# Altium schematic symbol library SCH_LIB.SchLib: 62 symbols
Pins are listed as number, name and electrical type; pins without a type are passive.

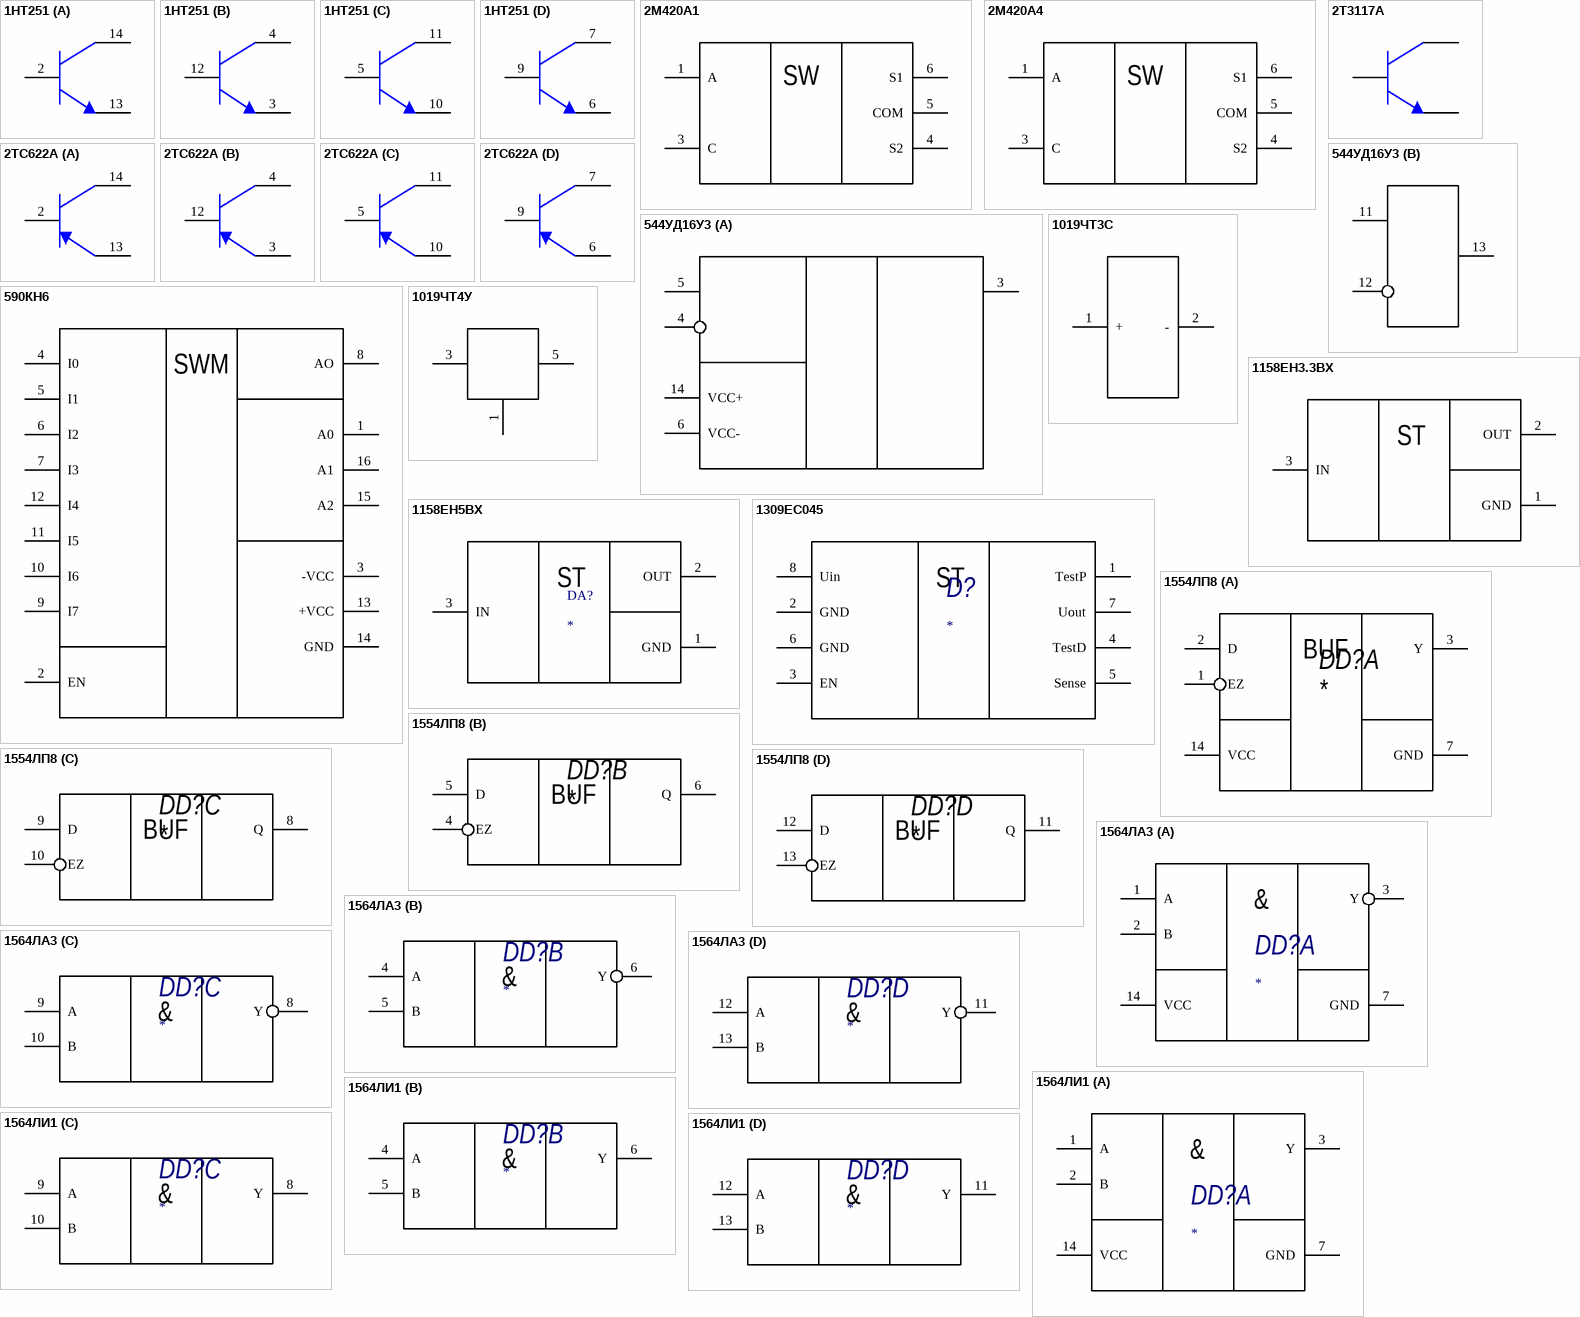
[diagram p0: symbols 1НТ251 to 1564ЛИ1]

## 1НТ251
designator DA?  (value not drawn)
part A pins: 2 B, 13 E, 14 C
part B pins: 3 E, 4 C, 12 B
part C pins: 5 B, 10 E, 11 C
part D pins: 6 E, 7 C, 9 B

## 2М420А1
designator D?  (value not drawn)
pins: 1 A, 3 C, 4 S2, 5 COM, 6 S1
text: SW

## 2М420А4
designator D?  (value not drawn)
pins: 1 A, 3 C, 4 S2, 5 COM, 6 S1
text: SW

## 2Т3117А
designator VT?  (value not drawn)
pins: 1 B, 2 E, 3 C

## 2ТС622А
designator DA?  (value not drawn)
part A pins: 2 B, 13 E, 14 C
part B pins: 3 E, 4 C, 12 B
part C pins: 5 B, 10 E, 11 C
part D pins: 6 E, 7 C, 9 B

## 544УД16У3
designator DA?  (value not drawn)
part A pins: 3, 4, 5, 6 VCC-, 14 VCC+
part B pins: 11, 12, 13

## 590КН6
designator DD?  (value not drawn)
pins: 1 A0, 2 EN, 3 -VCC, 4 I0, 5 I1, 6 I2, 7 I3, 8 AO, 9 I7, 10 I6, 11 I5, 12 I4, 13 +VCC, 14 GND, 15 A2, 16 A1
text: SWM

## 1019ЧТ3С
designator DA?  (value not drawn)
pins: 1 +, 2 -

## 1019ЧТ4У
designator DD?  (value not drawn)
pins: 1 6, 3 34, 5 33

## 1158ЕН3.3ВХ
designator DA?  (value not drawn)
pins: 1 GND, 2 OUT, 3 IN
text: ST

## 1158ЕН5ВХ
designator DA?
pins: 1 GND, 2 OUT, 3 IN
text: ST

## 1309ЕС045
designator D?
pins: 1 TestP, 2 GND, 3 EN, 4 TestD, 5 Sense, 6 GND, 7 Uout, 8 Uin
text: ST

## 1554ЛП8
designator DD?
part A pins: 1 EZ, 2 D, 3 Y, 7 GND, 14 VCC
part B pins: 4 EZ, 5 D, 6 Q
part C pins: 8 Q, 9 D, 10 EZ
part D pins: 11 Q, 12 D, 13 EZ
part A text: BUF
part B text: BUF
part C text: BUF
part D text: BUF

## 1564ЛА3
designator DD?
part A pins: 1 A, 2 B, 3 Y, 7 GND, 14 VCC
part B pins: 4 A, 5 B, 6 Y
part C pins: 8 Y, 9 A, 10 B
part D pins: 11 Y, 12 A, 13 B
part A text: &
part B text: &
part C text: &
part D text: &

## 1564ЛИ1
designator DD?
part A pins: 1 A, 2 B, 3 Y, 7 GND, 14 VCC
part B pins: 4 A, 5 B, 6 Y
part C pins: 8 Y, 9 A, 10 B
part D pins: 11 Y, 12 A, 13 B
part A text: &
part B text: &
part C text: &
part D text: &

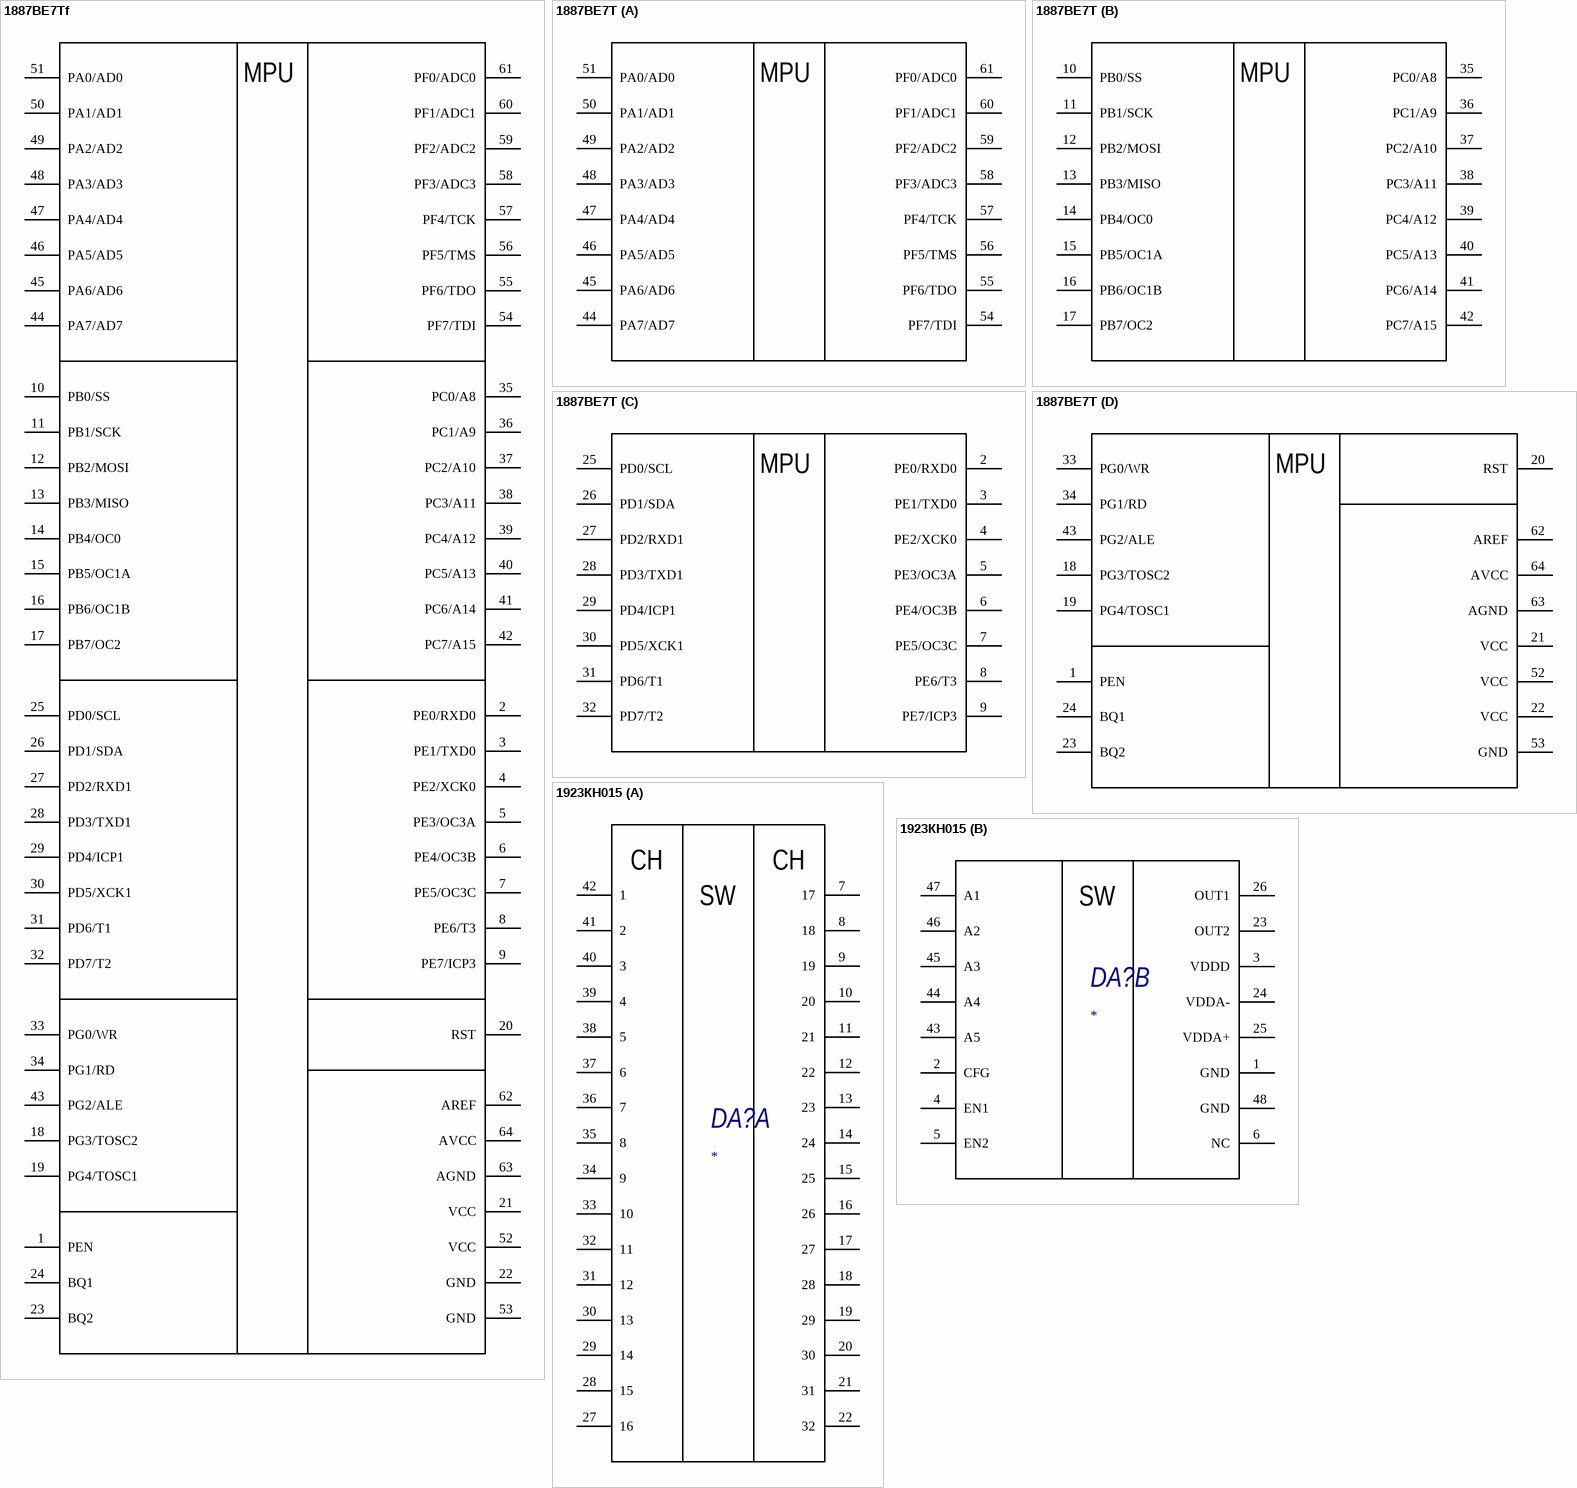
[diagram p1: symbols 1887BE7Тf to 1923КН015]

## 1887BE7Тf
designator DD?  (value not drawn)
pins: 1 PEN, 2 PE0/RXD0, 3 PE1/TXD0, 4 PE2/XCK0, 5 PE3/OC3A, 6 PE4/OC3B, 7 PE5/OC3C, 8 PE6/T3, 9 PE7/ICP3, 10 PB0/SS, 11 PB1/SCK, 12 PB2/MOSI, 13 PB3/MISO, 14 PB4/OC0, 15 PB5/OC1A, 16 PB6/OC1B, 17 PB7/OC2, 18 PG3/TOSC2, 19 PG4/TOSC1, 20 RST, 21 VCC, 22 GND, 23 BQ2, 24 BQ1, 25 PD0/SCL, 26 PD1/SDA, 27 PD2/RXD1, 28 PD3/TXD1, 29 PD4/ICP1, 30 PD5/XCK1, 31 PD6/T1, 32 PD7/T2, 33 PG0/WR, 34 PG1/RD, 35 PC0/A8, 36 PC1/A9, 37 PC2/A10, 38 PC3/A11, 39 PC4/A12, 40 PC5/A13, 41 PC6/A14, 42 PC7/A15, 43 PG2/ALE, 44 PA7/AD7, 45 PA6/AD6, 46 PA5/AD5, 47 PA4/AD4, 48 PA3/AD3, 49 PA2/AD2, 50 PA1/AD1, 51 PA0/AD0, 52 VCC, 53 GND, 54 PF7/TDI, 55 PF6/TDO, 56 PF5/TMS, 57 PF4/TCK, 58 PF3/ADC3, 59 PF2/ADC2, 60 PF1/ADC1, 61 PF0/ADC0, 62 AREF, 63 AGND, 64 AVCC
text: MPU

## 1887ВЕ7Т
designator DD?  (value not drawn)
part A pins: 44 PA7/AD7, 45 PA6/AD6, 46 PA5/AD5, 47 PA4/AD4, 48 PA3/AD3, 49 PA2/AD2, 50 PA1/AD1, 51 PA0/AD0, 54 PF7/TDI, 55 PF6/TDO, 56 PF5/TMS, 57 PF4/TCK, 58 PF3/ADC3, 59 PF2/ADC2, 60 PF1/ADC1, 61 PF0/ADC0
part B pins: 10 PB0/SS, 11 PB1/SCK, 12 PB2/MOSI, 13 PB3/MISO, 14 PB4/OC0, 15 PB5/OC1A, 16 PB6/OC1B, 17 PB7/OC2, 35 PC0/A8, 36 PC1/A9, 37 PC2/A10, 38 PC3/A11, 39 PC4/A12, 40 PC5/A13, 41 PC6/A14, 42 PC7/A15
part C pins: 2 PE0/RXD0, 3 PE1/TXD0, 4 PE2/XCK0, 5 PE3/OC3A, 6 PE4/OC3B, 7 PE5/OC3C, 8 PE6/T3, 9 PE7/ICP3, 25 PD0/SCL, 26 PD1/SDA, 27 PD2/RXD1, 28 PD3/TXD1, 29 PD4/ICP1, 30 PD5/XCK1, 31 PD6/T1, 32 PD7/T2
part D pins: 1 PEN, 18 PG3/TOSC2, 19 PG4/TOSC1, 20 RST, 21 VCC, 22 VCC, 23 BQ2, 24 BQ1, 33 PG0/WR, 34 PG1/RD, 43 PG2/ALE, 52 VCC, 53 GND, 62 AREF, 63 AGND, 64 AVCC
part A text: MPU
part B text: MPU
part C text: MPU
part D text: MPU

## 1923КН015
designator DA?
part A pins: 7 17, 8 18, 9 19, 10 20, 11 21, 12 22, 13 23, 14 24, 15 25, 16 26, 17 27, 18 28, 19 29, 20 30, 21 31, 22 32, 27 16, 28 15, 29 14, 30 13, 31 12, 32 11, 33 10, 34 9, 35 8, 36 7, 37 6, 38 5, 39 4, 40 3, 41 2, 42 1
part B pins: 1 GND, 2 CFG, 3 VDDD, 4 EN1, 5 EN2, 6 NC, 23 OUT2, 24 VDDA-, 25 VDDA+, 26 OUT1, 43 A5, 44 A4, 45 A3, 46 A2, 47 A1, 48 GND
part A text: CH; SW
part B text: SW

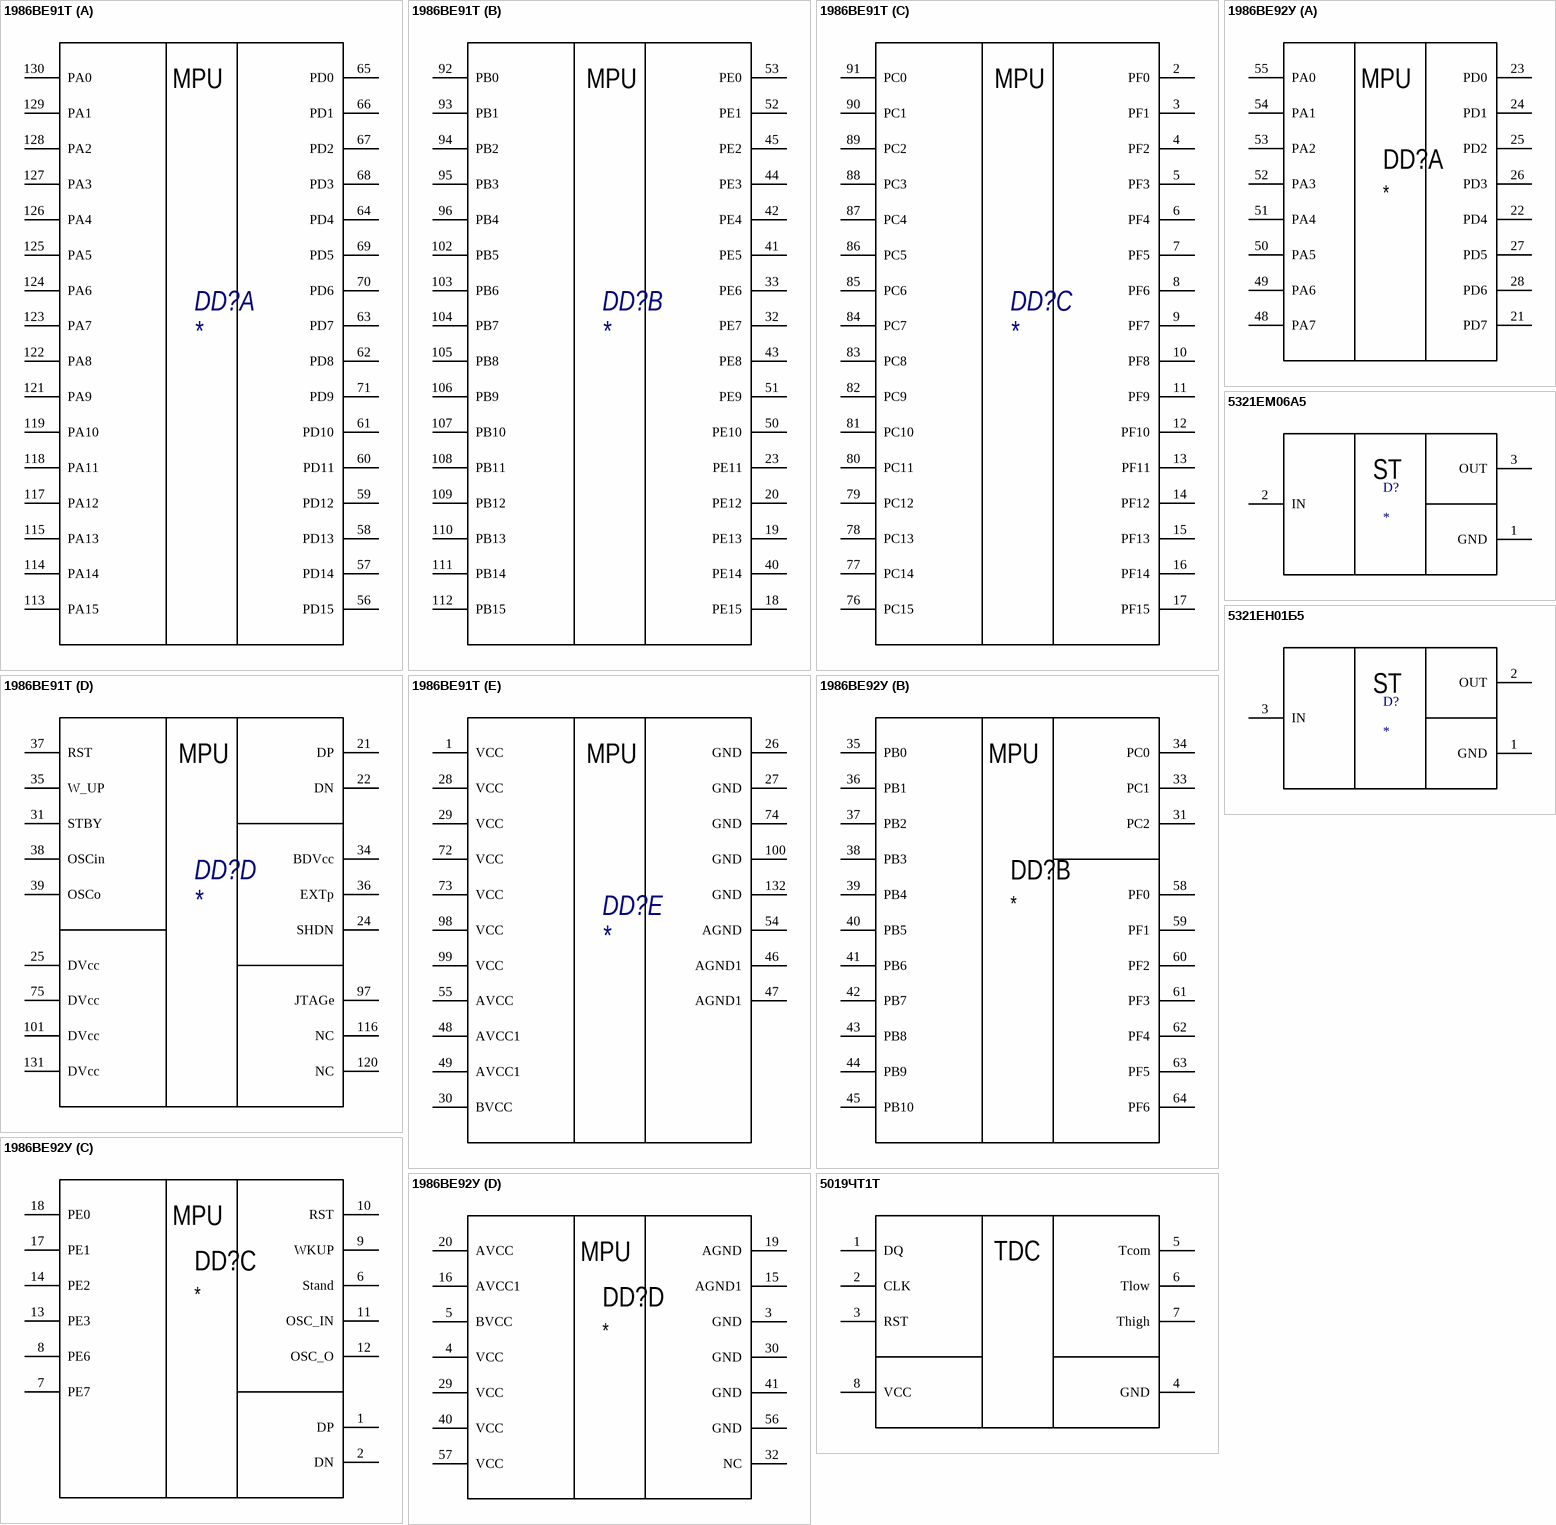
[diagram p2: symbols 1986ВЕ91Т to 5321ЕН01Б5]

## 1986ВЕ91Т
designator DD?
part A pins: 56 PD15, 57 PD14, 58 PD13, 59 PD12, 60 PD11, 61 PD10, 62 PD8, 63 PD7, 64 PD4, 65 PD0, 66 PD1, 67 PD2, 68 PD3, 69 PD5, 70 PD6, 71 PD9, 113 PA15, 114 PA14, 115 PA13, 117 PA12, 118 PA11, 119 PA10, 121 PA9, 122 PA8, 123 PA7, 124 PA6, 125 PA5, 126 PA4, 127 PA3, 128 PA2, 129 PA1, 130 PA0
part B pins: 18 PE15, 19 PE13, 20 PE12, 23 PE11, 32 PE7, 33 PE6, 40 PE14, 41 PE5, 42 PE4, 43 PE8, 44 PE3, 45 PE2, 50 PE10, 51 PE9, 52 PE1, 53 PE0, 92 PB0, 93 PB1, 94 PB2, 95 PB3, 96 PB4, 102 PB5, 103 PB6, 104 PB7, 105 PB8, 106 PB9, 107 PB10, 108 PB11, 109 PB12, 110 PB13, 111 PB14, 112 PB15
part C pins: 2 PF0, 3 PF1, 4 PF2, 5 PF3, 6 PF4, 7 PF5, 8 PF6, 9 PF7, 10 PF8, 11 PF9, 12 PF10, 13 PF11, 14 PF12, 15 PF13, 16 PF14, 17 PF15, 76 PC15, 77 PC14, 78 PC13, 79 PC12, 80 PC11, 81 PC10, 82 PC9, 83 PC8, 84 PC7, 85 PC6, 86 PC5, 87 PC4, 88 PC3, 89 PC2, 90 PC1, 91 PC0
part D pins: 21 DP, 22 DN, 24 SHDN, 25 DVcc, 31 STBY, 34 BDVcc, 35 W_UP, 36 EXTp, 37 RST, 38 OSCin, 39 OSCo, 75 DVcc, 97 JTAGe, 101 DVcc, 116 NC, 120 NC, 131 DVcc
part E pins: 1 VCC, 26 GND, 27 GND, 28 VCC, 29 VCC, 30 BVCC, 46 AGND1, 47 AGND1, 48 AVCC1, 49 AVCC1, 54 AGND, 55 AVCC, 72 VCC, 73 VCC, 74 GND, 98 VCC, 99 VCC, 100 GND, 132 GND
part A text: MPU
part B text: MPU
part C text: MPU
part D text: MPU
part E text: MPU

## 1986ВЕ92У
designator DD?
part A pins: 21 PD7, 22 PD4, 23 PD0, 24 PD1, 25 PD2, 26 PD3, 27 PD5, 28 PD6, 48 PA7, 49 PA6, 50 PA5, 51 PA4, 52 PA3, 53 PA2, 54 PA1, 55 PA0
part B pins: 31 PC2, 33 PC1, 34 PC0, 35 PB0, 36 PB1, 37 PB2, 38 PB3, 39 PB4, 40 PB5, 41 PB6, 42 PB7, 43 PB8, 44 PB9, 45 PB10, 58 PF0, 59 PF1, 60 PF2, 61 PF3, 62 PF4, 63 PF5, 64 PF6
part C pins: 1 DP, 2 DN, 6 Stand, 7 PE7, 8 PE6, 9 WKUP, 10 RST, 11 OSC_IN, 12 OSC_O, 13 PE3, 14 PE2, 17 PE1, 18 PE0
part D pins: 3 GND, 4 VCC, 5 BVCC, 15 AGND1, 16 AVCC1, 19 AGND, 20 AVCC, 29 VCC, 30 GND, 32 NC, 40 VCC, 41 GND, 56 GND, 57 VCC
part A text: MPU
part B text: MPU
part C text: MPU
part D text: MPU

## 5019ЧТ1Т
designator DA?  (value not drawn)
pins: 1 DQ, 2 CLK, 3 RST, 4 GND, 5 Tcom, 6 Tlow, 7 Thigh, 8 VCC
text: TDC

## 5321ЕМ06А5
designator D?
pins: 1 GND, 2 IN, 3 OUT
text: ST

## 5321ЕН01Б5
designator D?
pins: 1 GND, 2 OUT, 3 IN
text: ST

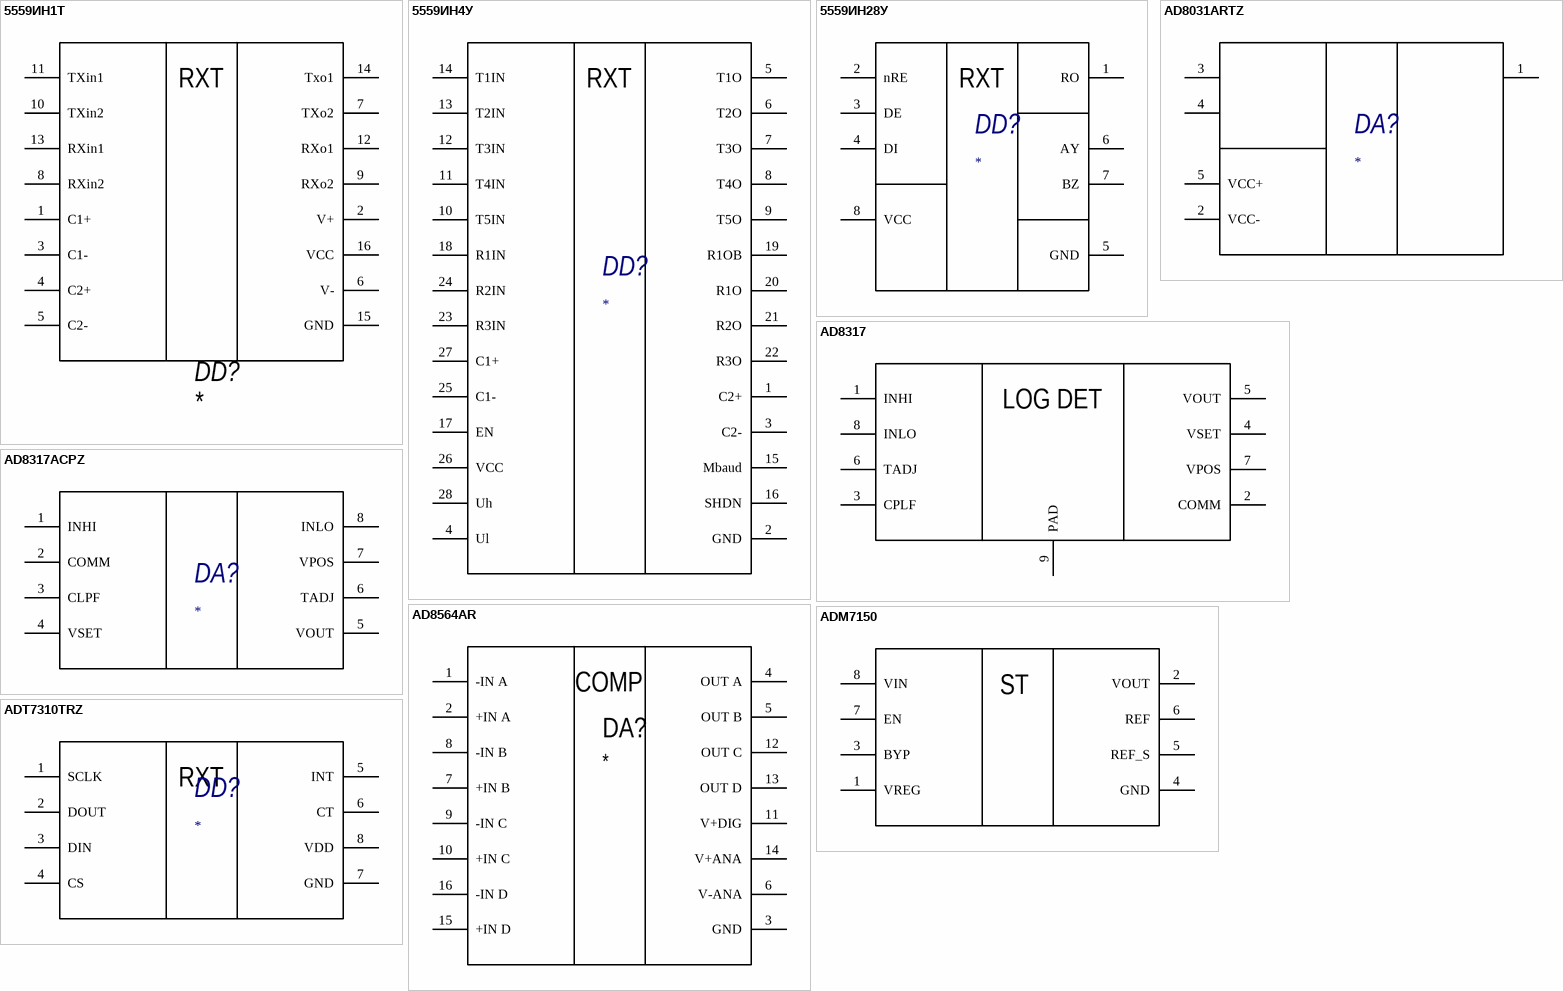
[diagram p3: symbols 5559ИН1Т to ADT7310TRZ]

## 5559ИН1Т
designator DD?
pins: 1 C1+, 2 V+, 3 C1-, 4 C2+, 5 C2-, 6 V-, 7 TXo2, 8 RXin2, 9 RXo2, 10 TXin2, 11 TXin1, 12 RXo1, 13 RXin1, 14 Txo1, 15 GND, 16 VCC
text: RXT

## 5559ИН4У
designator DD?
pins: 1 C2+, 2 GND, 3 C2-, 4 Ul, 5 T1O, 6 T2O, 7 T3O, 8 T4O, 9 T5O, 10 T5IN, 11 T4IN, 12 T3IN, 13 T2IN, 14 T1IN, 15 Mbaud, 16 SHDN, 17 EN, 18 R1IN, 19 R1OB, 20 R1O, 21 R2O, 22 R3O, 23 R3IN, 24 R2IN, 25 C1-, 26 VCC, 27 C1+, 28 Uh
text: RXT

## 5559ИН28У
designator DD?
pins: 1 RO, 2 nRE, 3 DE, 4 DI, 5 GND, 6 AY, 7 BZ, 8 VCC
text: RXT

## AD8031ARTZ
designator DA?
pins: 1, 2 VCC-, 3, 4, 5 VCC+

## AD8317
designator DA?  (value not drawn)
pins: 1 INHI, 2 COMM, 3 CPLF, 4 VSET, 5 VOUT, 6 TADJ, 7 VPOS, 8 INLO, 9 PAD
text: LOG DET

## AD8317ACPZ
designator DA?
pins: 1 INHI, 2 COMM, 3 CLPF, 4 VSET, 5 VOUT, 6 TADJ, 7 VPOS, 8 INLO

## AD8564AR
designator DA?
pins: 1 -IN A, 2 +IN A, 3 GND, 4 OUT A, 5 OUT B, 6 V-ANA, 7 +IN B, 8 -IN B, 9 -IN C, 10 +IN C, 11 V+DIG, 12 OUT C, 13 OUT D, 14 V+ANA, 15 +IN D, 16 -IN D
text: COMP

## ADM7150
designator DA?  (value not drawn)
pins: 1 VREG, 2 VOUT, 3 BYP, 4 GND, 5 REF_S, 6 REF, 7 EN, 8 VIN
text: ST

## ADT7310TRZ
designator DD?
pins: 1 SCLK, 2 DOUT, 3 DIN, 4 CS, 5 INT, 6 CT, 7 GND, 8 VDD
text: RXT

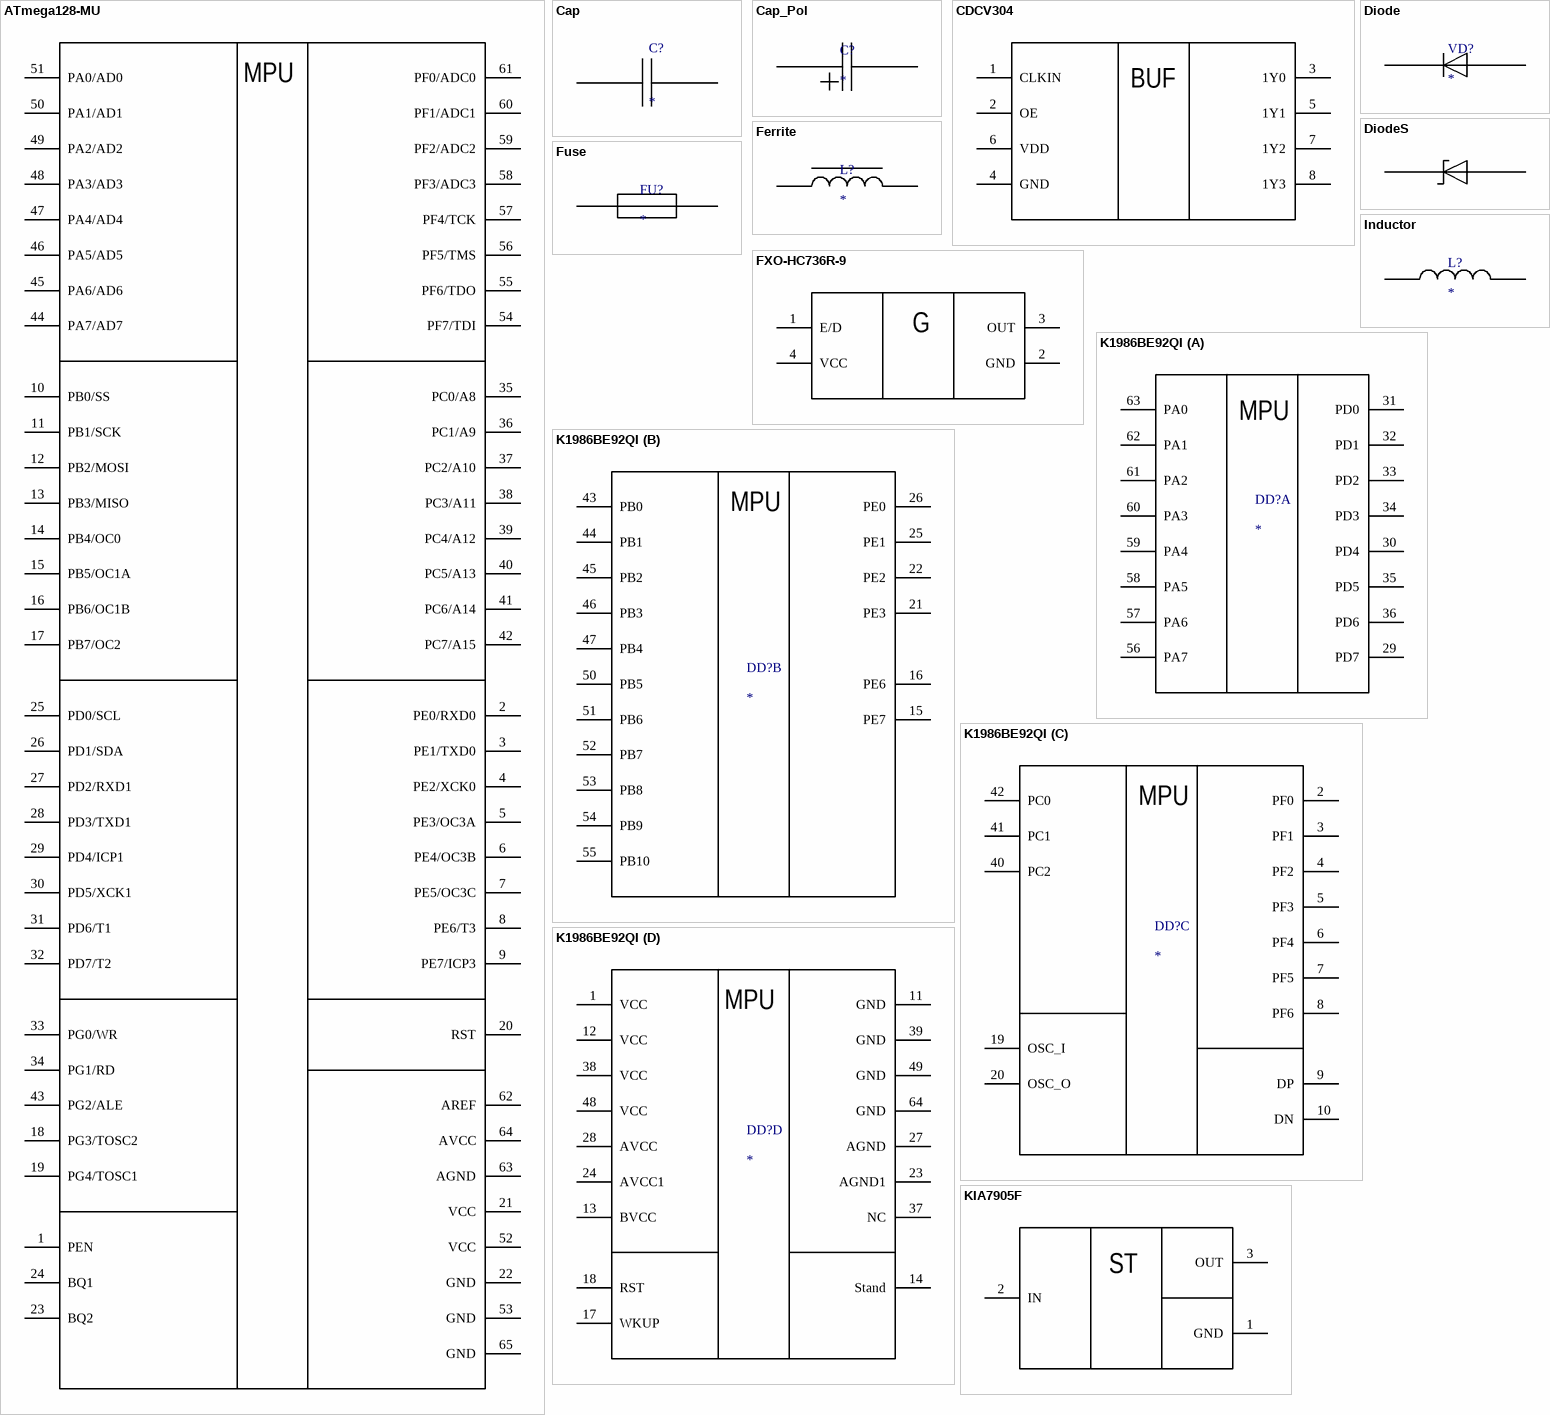
[diagram p4: symbols ATmega128-MU to KIA7905F]

## ATmega128-MU
designator DD?  (value not drawn)
pins: 1 PEN, 2 PE0/RXD0, 3 PE1/TXD0, 4 PE2/XCK0, 5 PE3/OC3A, 6 PE4/OC3B, 7 PE5/OC3C, 8 PE6/T3, 9 PE7/ICP3, 10 PB0/SS, 11 PB1/SCK, 12 PB2/MOSI, 13 PB3/MISO, 14 PB4/OC0, 15 PB5/OC1A, 16 PB6/OC1B, 17 PB7/OC2, 18 PG3/TOSC2, 19 PG4/TOSC1, 20 RST, 21 VCC, 22 GND, 23 BQ2, 24 BQ1, 25 PD0/SCL, 26 PD1/SDA, 27 PD2/RXD1, 28 PD3/TXD1, 29 PD4/ICP1, 30 PD5/XCK1, 31 PD6/T1, 32 PD7/T2, 33 PG0/WR, 34 PG1/RD, 35 PC0/A8, 36 PC1/A9, 37 PC2/A10, 38 PC3/A11, 39 PC4/A12, 40 PC5/A13, 41 PC6/A14, 42 PC7/A15, 43 PG2/ALE, 44 PA7/AD7, 45 PA6/AD6, 46 PA5/AD5, 47 PA4/AD4, 48 PA3/AD3, 49 PA2/AD2, 50 PA1/AD1, 51 PA0/AD0, 52 VCC, 53 GND, 54 PF7/TDI, 55 PF6/TDO, 56 PF5/TMS, 57 PF4/TCK, 58 PF3/ADC3, 59 PF2/ADC2, 60 PF1/ADC1, 61 PF0/ADC0, 62 AREF, 63 AGND, 64 AVCC, 65 GND
text: MPU

## Cap
designator C?
pins: 1, 2

## Cap_Pol
designator C?
pins: 1, 2

## CDCV304
designator DA?  (value not drawn)
pins: 1 CLKIN, 2 OE, 3 1Y0, 4 GND, 5 1Y1, 6 VDD, 7 1Y2, 8 1Y3
text: BUF

## Diode
designator VD?
pins: 1, 2

## DiodeS
designator VD?  (value not drawn)
pins: 1, 2

## Ferrite
designator L?
pins: 1, 2

## Fuse
designator FU?
pins: 1, 2

## FXO-HC736R-9
designator G?  (value not drawn)
pins: 1 E/D, 2 GND, 3 OUT, 4 VCC
text: G

## Inductor
designator L?
pins: 1, 2

## K1986ВЕ92QI
designator DD?
part A pins: 29 PD7, 30 PD4, 31 PD0, 32 PD1, 33 PD2, 34 PD3, 35 PD5, 36 PD6, 56 PA7, 57 PA6, 58 PA5, 59 PA4, 60 PA3, 61 PA2, 62 PA1, 63 PA0
part B pins: 15 PE7, 16 PE6, 21 PE3, 22 PE2, 25 PE1, 26 PE0, 43 PB0, 44 PB1, 45 PB2, 46 PB3, 47 PB4, 50 PB5, 51 PB6, 52 PB7, 53 PB8, 54 PB9, 55 PB10
part C pins: 2 PF0, 3 PF1, 4 PF2, 5 PF3, 6 PF4, 7 PF5, 8 PF6, 9 DP, 10 DN, 19 OSC_I, 20 OSC_O, 40 PC2, 41 PC1, 42 PC0
part D pins: 1 VCC, 11 GND, 12 VCC, 13 BVCC, 14 Stand, 17 WKUP, 18 RST, 23 AGND1, 24 AVCC1, 27 AGND, 28 AVCC, 37 NC, 38 VCC, 39 GND, 48 VCC, 49 GND, 64 GND
part A text: MPU
part B text: MPU
part C text: MPU
part D text: MPU

## KIA7905F
designator DA?  (value not drawn)
pins: 1 GND, 2 IN, 3 OUT
text: ST

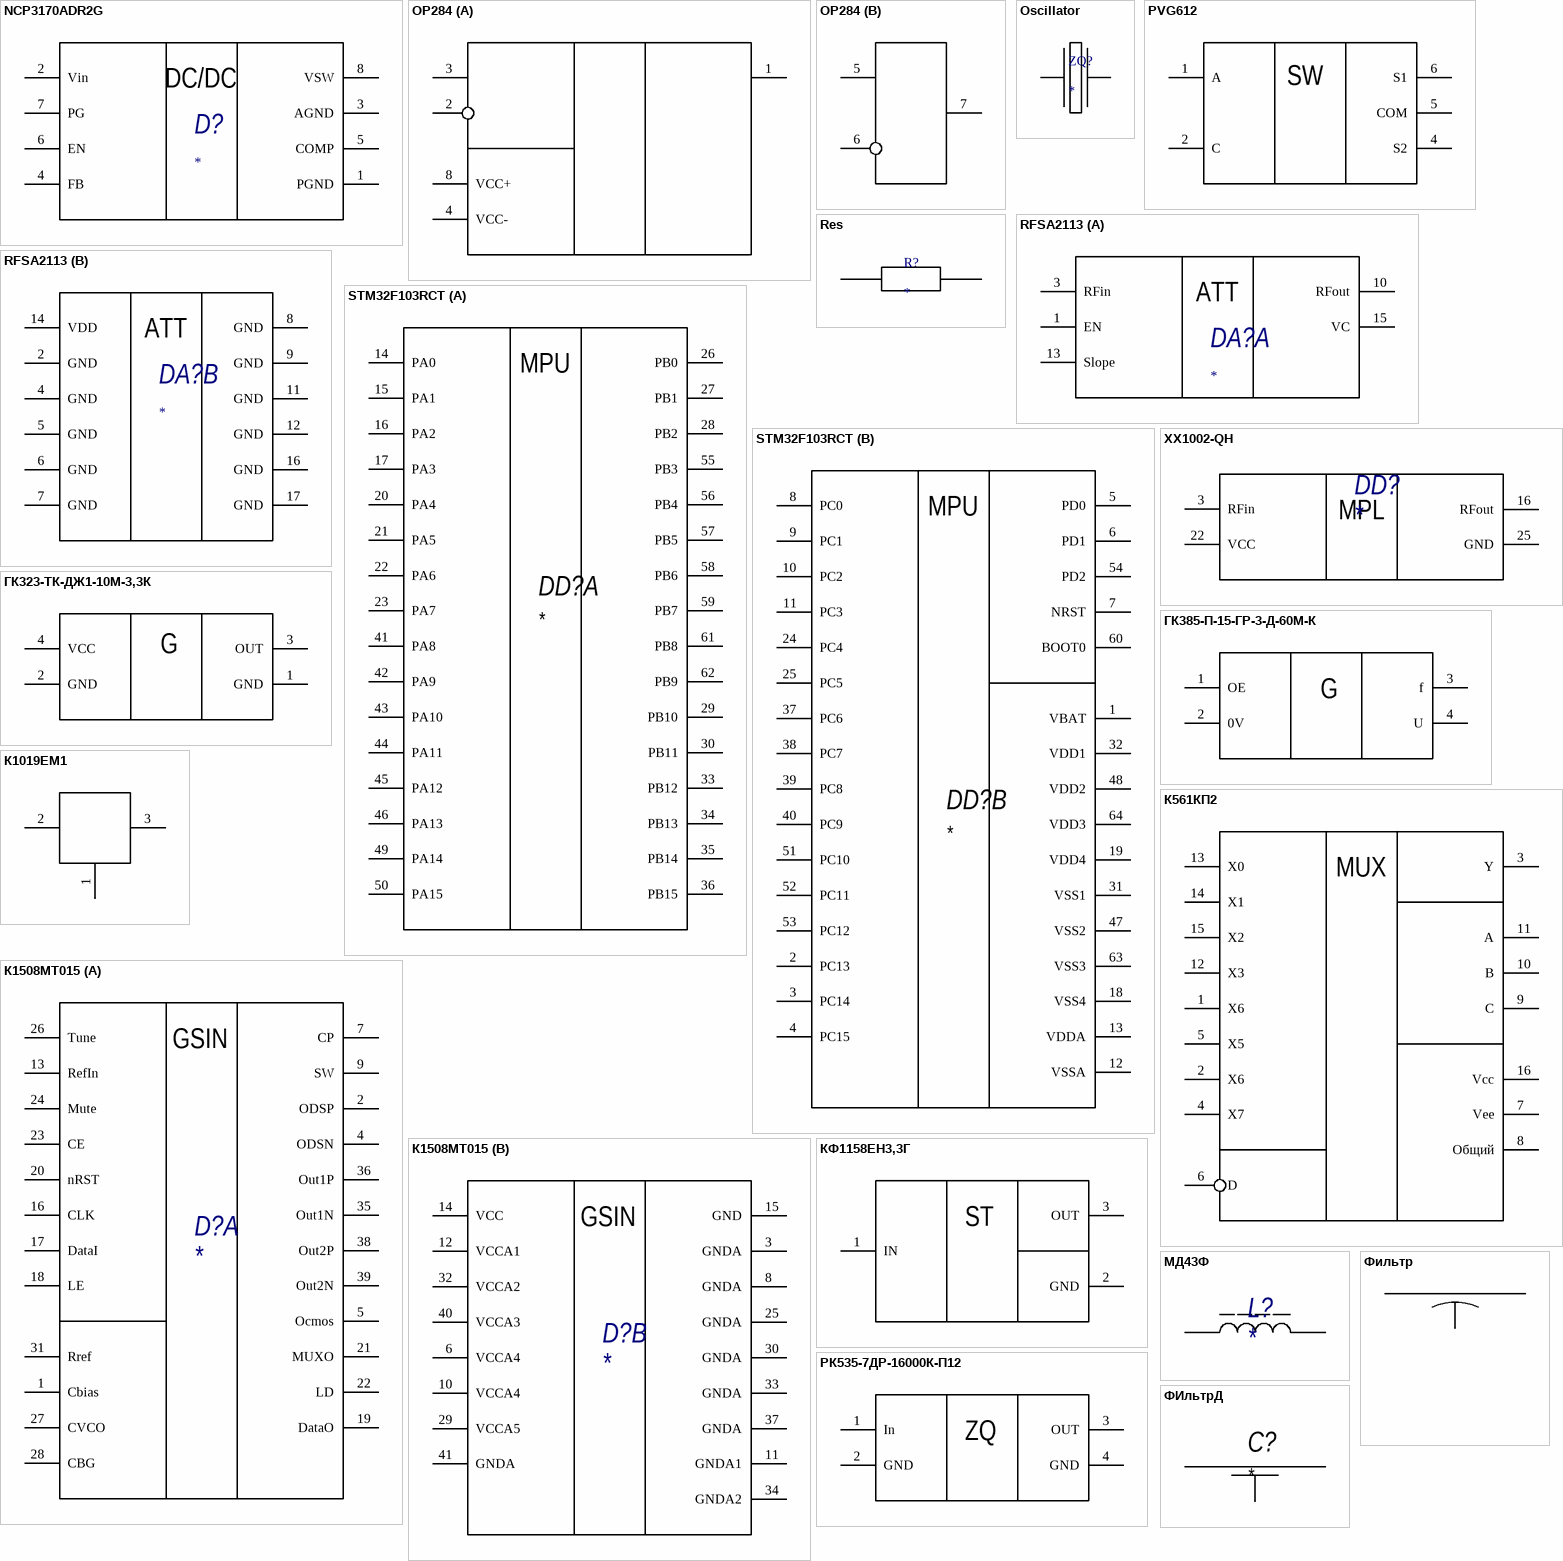
[diagram p5: symbols NCP3170ADR2G to ФИльтрД]

## NCP3170ADR2G
designator D?
pins: 1 PGND, 2 Vin, 3 AGND, 4 FB, 5 COMP, 6 EN, 7 PG, 8 VSW
text: DC/DC

## OP284
designator DA?  (value not drawn)
part A pins: 1, 2, 3, 4 VCC-, 8 VCC+
part B pins: 5, 6, 7

## Oscillator
designator ZQ?
pins: 1, 2

## PVG612
designator D?  (value not drawn)
pins: 1 A, 2 C, 4 S2, 5 COM, 6 S1
text: SW

## Res
designator R?
pins: 1, 2

## RFSA2113
designator DA?
part A pins: 1 EN, 3 RFin, 10 RFout, 13 Slope, 15 VC
part B pins: 2 GND, 4 GND, 5 GND, 6 GND, 7 GND, 8 GND, 9 GND, 11 GND, 12 GND, 14 VDD, 16 GND, 17 GND
part A text: ATT
part B text: ATT

## STM32F103RCT
designator DD?
part A pins: 14 PA0, 15 PA1, 16 PA2, 17 PA3, 20 PA4, 21 PA5, 22 PA6, 23 PA7, 26 PB0, 27 PB1, 28 PB2, 29 PB10, 30 PB11, 33 PB12, 34 PB13, 35 PB14, 36 PB15, 41 PA8, 42 PA9, 43 PA10, 44 PA11, 45 PA12, 46 PA13, 49 PA14, 50 PA15, 55 PB3, 56 PB4, 57 PB5, 58 PB6, 59 PB7, 61 PB8, 62 PB9
part B pins: 1 VBAT, 2 PC13, 3 PC14, 4 PC15, 5 PD0, 6 PD1, 7 NRST, 8 PC0, 9 PC1, 10 PC2, 11 PC3, 12 VSSA, 13 VDDA, 18 VSS4, 19 VDD4, 24 PC4, 25 PC5, 31 VSS1, 32 VDD1, 37 PC6, 38 PC7, 39 PC8, 40 PC9, 47 VSS2, 48 VDD2, 51 PC10, 52 PC11, 53 PC12, 54 PD2, 60 BOOT0, 63 VSS3, 64 VDD3
part A text: MPU
part B text: MPU

## XX1002-QH
designator DD?
pins: 3 RFin, 16 RFout, 22 VCC, 25 GND
text: MPL

## ГК323-ТК-ДЖ1-10М-3,3К
designator G?  (value not drawn)
pins: 1 GND, 2 GND, 3 OUT, 4 VCC
text: G

## ГК385-П-15-ГР-3-Д-60М-К
designator G?  (value not drawn)
pins: 1 OE, 2 0V, 3 f, 4 U
text: G

## К561КП2
designator DD?  (value not drawn)
pins: 1 X6, 2 X6, 3 Y, 4 X7, 5 X5, 6 D, 7 Vee, 8 Общий, 9 C, 10 B, 11 A, 12 X3, 13 X0, 14 X1, 15 X2, 16 Vcc
text: MUX

## К1019ЕМ1
designator DA?  (value not drawn)
pins: 1 6, 2 34, 3 33

## К1508МТ015
designator D?
part A pins: 1 Cbias, 2 ODSP, 4 ODSN, 5 Ocmos, 7 CP, 9 SW, 13 RefIn, 16 CLK, 17 DataI, 18 LE, 19 DataO, 20 nRST, 21 MUXO, 22 LD, 23 CE, 24 Mute, 26 Tune, 27 CVCO, 28 CBG, 31 Rref, 35 Out1N, 36 Out1P, 38 Out2P, 39 Out2N
part B pins: 3 GNDA, 6 VCCA4, 8 GNDA, 10 VCCA4, 11 GNDA1, 12 VCCA1, 14 VCC, 15 GND, 25 GNDA, 29 VCCA5, 30 GNDA, 32 VCCA2, 33 GNDA, 34 GNDA2, 37 GNDA, 40 VCCA3, 41 GNDA
part A text: GSIN
part B text: GSIN

## КФ1158ЕН3,3Г
designator DA?  (value not drawn)
pins: 1 IN, 2 GND, 3 OUT
text: ST

## МД43Ф
designator L?
pins: 1, 2

## РК535-7ДР-16000К-П12
designator ZQ?  (value not drawn)
pins: 1 In, 2 GND, 3 OUT, 4 GND
text: ZQ

## Фильтр
designator C?  (value not drawn)
pins: 1, 2, 3

## ФИльтрД
designator C?
pins: 1, 2, 3